# EAGLE library part IC_DIL28 (library dp_devices)
universal DIP-28
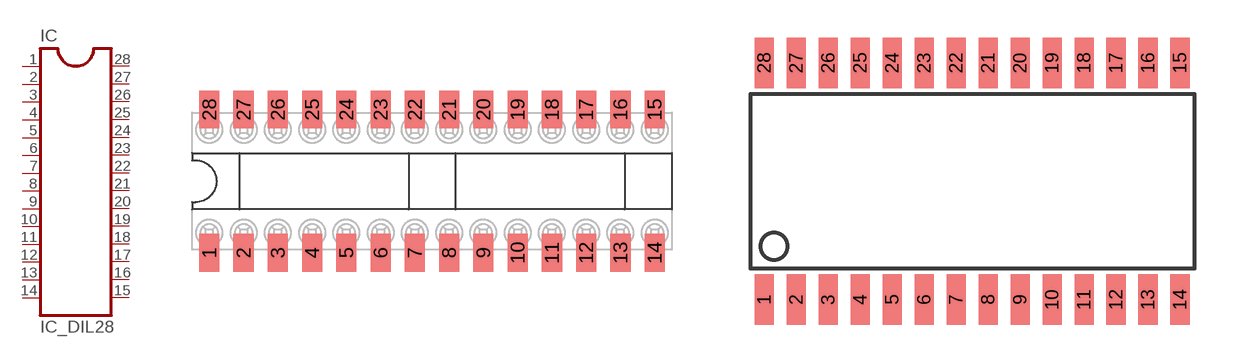
[diagram p121: symbol with the pads of DIL28-SMD; footprints DIL28-SMD, SOIC-28W]

Designator prefix IC

## IC_DIL28-DIL28-SMD  [DIL28-SMD]
1  1
2  2
3  3
4  4
5  5
6  6
7  7
8  8
9  9
10  10
11  11
12  12
13  13
14  14
15  15
16  16
17  17
18  18
19  19
20  20
21  21
22  22
23  23
24  24
25  25
26  26
27  27
28  28

## IC_DIL28-SOIC-28W  [SOIC-28W]
Pads as for DIL28-SMD

## IC_DIL28-SOIC-28NW  [SOIC-28NW]
P1  1
P2  2
P3  3
P4  4
P5  5
P6  6
P7  7
P8  8
P9  9
P10  10
P11  11
P12  12
P13  13
P14  14
P15  15
P16  16
P17  17
P18  18
P19  19
P20  20
P21  21
P22  22
P23  23
P24  24
P25  25
P26  26
P27  27
P28  28

## Footprint DIL28-SMD (pad centres in mm)
0.1" pitch 28 DIP socket to SMD Mfr no: SHD-028-3 SHD-028-3 <http://oomlout.com/parts/SOCK-28-SMD-datasheet.pdf>
smd 1.5 x 2.8: 1 -16.51,-5.31; 2 -13.97,-5.31; 3 -11.43,-5.31; 4 -8.89,-5.31; 5 -6.35,-5.31; 6 -3.81,-5.31; 7 -1.27,-5.31; 8 1.27,-5.31; 9 3.81,-5.31; 10 6.35,-5.31; 11 8.89,-5.31; 12 11.43,-5.31; 13 13.97,-5.31; 14 16.51,-5.31; 15 16.51,5.31; 16 13.97,5.31; 17 11.43,5.31; 18 8.89,5.31; 19 6.35,5.31; 20 3.81,5.31; 21 1.27,5.31; 22 -1.27,5.31; 23 -3.81,5.31; 24 -6.35,5.31; 25 -8.89,5.31; 26 -11.43,5.31; 27 -13.97,5.31; 28 -16.51,5.31

## Footprint SOIC-28W (pad centres in mm)
smd 0.762 x 2: 1 -8.89,-4.7; 2 -7.62,-4.7; 3 -6.35,-4.7; 4 -5.08,-4.7; 5 -3.81,-4.7; 6 -2.54,-4.7; 7 -1.27,-4.7; 8 0,-4.7; 9 1.27,-4.7; 10 2.54,-4.7; 11 3.81,-4.7; 12 5.08,-4.7; 13 6.35,-4.7; 14 7.62,-4.7; 15 7.62,4.7; 16 6.35,4.7; 17 5.08,4.7; 18 3.81,4.7; 19 2.54,4.7; 20 1.27,4.7; 21 0,4.7; 22 -1.27,4.7; 23 -2.54,4.7; 24 -3.81,4.7; 25 -5.08,4.7; 26 -6.35,4.7; 27 -7.62,4.7; 28 -8.89,4.7

## Footprint SOIC-28NW (pad centres in mm)
SSOP-28 Narrow - Wide Pad size: 0.6 x 3.56 mm Pad pitch: 1.27mm Pad pitch lateral: 7.56mm
smd 0.6 x 3.56: P1 -8.255,-3.78; P2 -6.985,-3.78; P3 -5.715,-3.78; P4 -4.445,-3.78; P5 -3.175,-3.78; P6 -1.905,-3.78; P7 -0.635,-3.78; P8 0.635,-3.78; P9 1.905,-3.78; P10 3.175,-3.78; P11 4.445,-3.78; P12 5.715,-3.78; P13 6.985,-3.78; P14 8.255,-3.78; P15 8.255,3.78; P16 6.985,3.78; P17 5.715,3.78; P18 4.445,3.78; P19 3.175,3.78; P20 1.905,3.78; P21 0.635,3.78; P22 -0.635,3.78; P23 -1.905,3.78; P24 -3.175,3.78; P25 -4.445,3.78; P26 -5.715,3.78; P27 -6.985,3.78; P28 -8.255,3.78